# EAGLE library part P0925N (library pot-tt_electronics)
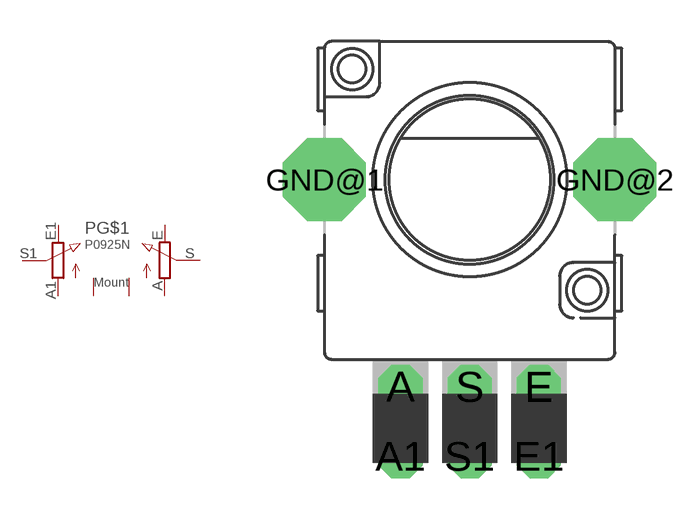
[diagram p26: symbol with the pads of P0925N; footprint P0925N]

Designator prefix P; gates G$1=P0925N G$2=MOUNT

## P0925N  [P0925N]
A  G$1:A  pas
A1  G$1:A1  pas
E  G$1:E  pas
E1  G$1:E1  pas
GND@1  G$2:GND  pas
GND@2  G$2:GND  pas
S  G$1:S  pas
S1  G$1:S1  pas

## Footprint P0925N (pad centres in mm)
drill 1 pad 1.6 octagon: A -2.5,-7.5; A1 -2.5,-10; E 2.5,-7.5; E1 2.5,-10; S 0,-7.5; S1 0,-10
drill 2 pad 3 octagon: GND@1 -5.25,0; GND@2 5.25,0